# EAGLE library part VL53L0X_BREAKOUT (library pololu)
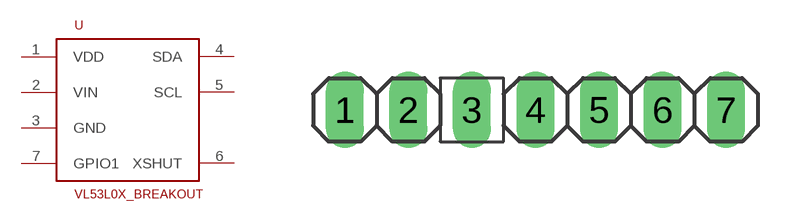
[diagram p0: symbol with the pads of 1X07; footprint 1X07]

Designator prefix U

## VL53L0X_BREAKOUT  [1X07]
1  VDD  pwr
2  VIN  pwr
3  GND  pwr
4  SDA
5  SCL
6  XSHUT  in
7  GPIO1  out

## Footprint 1X07 (pad centres in mm)
PIN HEADER
drill 1.016 long: 1 -7.62,0; 2 -5.08,0; 3 -2.54,0; 4 0,0; 5 2.54,0; 6 5.08,0; 7 7.62,0